# Altium schematic symbol library GAINS_SCH.SchLib: 7 symbols
Pins are listed as number, name and electrical type; pins without a type are passive.

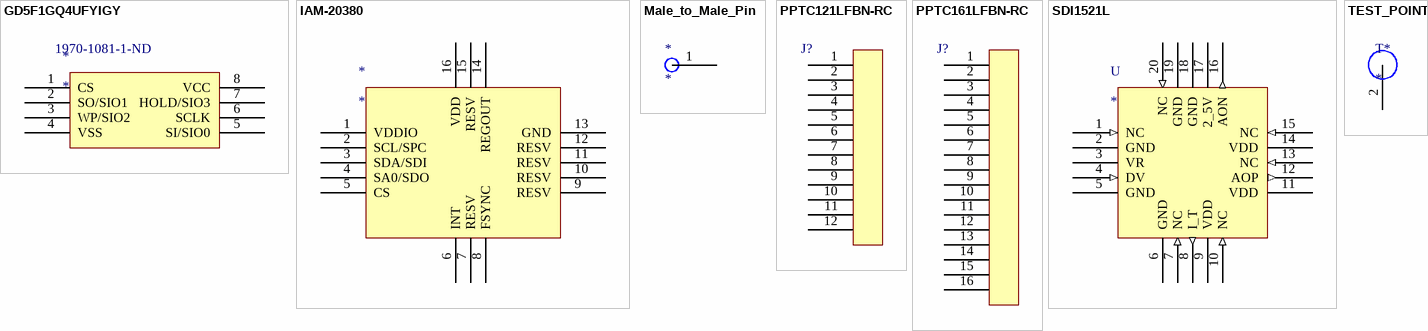
[diagram p0: symbols GD5F1GQ4UFYIGY to TEST_POINT]

## GD5F1GQ4UFYIGY
designator *  Supplier Part Number 1: 1970-1081-1-ND
FLASH - NAND Memory IC 1Gbit SPI - Quad I/O 120 MHz 8-WSON (6x8) - GD5F1GQ4UFYIGY; Supplier 1: Digi-Key
footprint SON127P800X80_HS-9N (SON, 8-Leads, Body 6.00x8.00mm, Pitch 1.27mm, Thermal Pad 3.40x4.30mm, IPC Medium Density)
pins: 1 CS, 2 SO/SIO1, 3 WP/SIO2, 4 VSS, 5 SI/SIO0, 6 SCLK, 7 HOLD/SIO3, 8 VCC

## IAM-20380
designator *
IAM-20380 High Performance Gyroscope
footprint Gyro - IAM20380
pins: 1 VDDIO, 2 SCL/SPC, 3 SDA/SDI, 4 SA0/SDO, 5 CS, 6 INT, 7 RESV, 8 FSYNC, 9 RESV, 10 RESV, 11 RESV, 12 RESV, 13 GND, 14 REGOUT, 15 RESV, 16 VDD

## Male_to_Male_Pin
designator *
pins: 1

## PPTC121LFBN-RC
designator J?  (value not drawn)
12 pos 2.54mm Tin Connector / Part Number: PPTC121LFBN-RC
pins: 1, 2, 3, 4, 5, 6, 7, 8, 9, 10, 11, 12

## PPTC161LFBN-RC
designator J?
16 Pos 2.54mm Tin Connector / Part Number: PPTC161LFBN-RC
pins: 1, 2, 3, 4, 5, 6, 7, 8, 9, 10, 11, 12, 13, 14, 15, 16

## SDI1521L
designator U
SDI1521L Accelerometer +/- 2G
footprint SDI 1521L
pins: 1 NC (in), 2 GND, 3 VR, 4 DV (in), 5 GND, 6 GND, 7 NC (in), 8 I_T (out), 9 VDD, 10 NC (in), 11 VDD, 12 AOP (out), 13 NC (in), 14 VDD, 15 NC (in), 16 AON (out), 17 2_5V, 18 GND, 19 GND, 20 NC (in)

## TEST_POINT
designator T*
Test Point
footprint PCBComponent_1
pins: 2